# EAGLE library part U2270B (library CEDT_JANUARY_2015_v6)
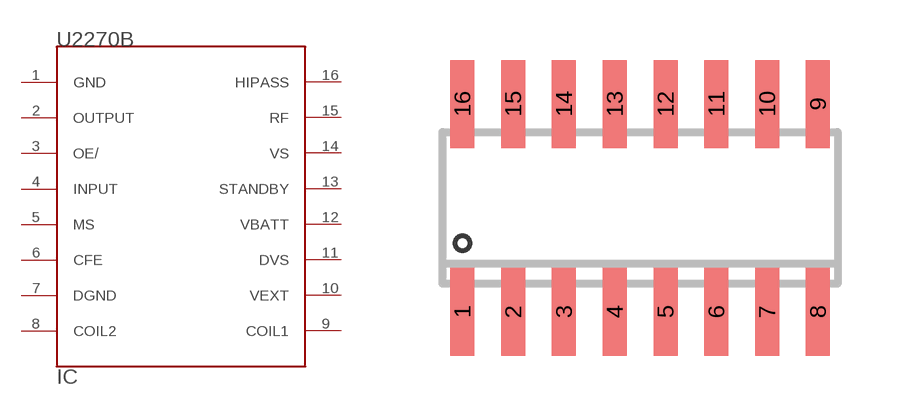
[diagram p7: symbol with the pads of SO16; footprint SO16]

Designator prefix IC

## U2270B  [SO16]
1  GND
2  OUTPUT
3  OE/
4  INPUT
5  MS
6  CFE
7  DGND
8  COIL2
9  COIL1
10  VEXT
11  DVS
12  VBATT
13  STANDBY
14  VS
15  RF
16  HIPASS

## Footprint SO16 (pad centres in mm)
SMALL OUTLINE INTEGRATED CIRCUIT body 3.9 mm/JEDEC MS-012AC
smd 0.6 x 2.2: 1 -4.445,-2.6; 2 -3.175,-2.6; 3 -1.905,-2.6; 4 -0.635,-2.6; 5 0.635,-2.6; 6 1.905,-2.6; 7 3.175,-2.6; 8 4.445,-2.6; 9 4.445,2.6; 10 3.175,2.6; 11 1.905,2.6; 12 0.635,2.6; 13 -0.635,2.6; 14 -1.905,2.6; 15 -3.175,2.6; 16 -4.445,2.6